# EAGLE library part CP2104 (library forkbomb19)
CP2104 - USB to UART Bridge VDD Output: 3.45V
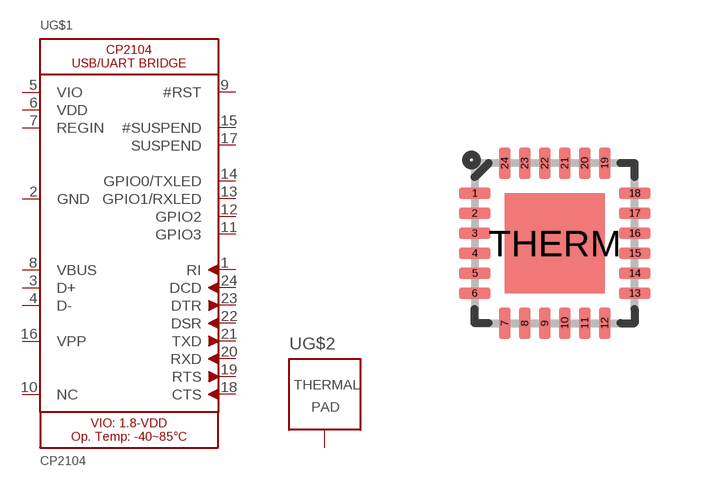
[diagram p2: symbol with the pads of QFN24_4MM_SMSC; footprint QFN24_4MM_SMSC]

Designator prefix U; gates G$1=CP2104 G$2=THERMAL-SLUG

## CP2104  [QFN24_4MM_SMSC]
1  G$1:RI  in
2  G$1:GND  pwr
3  G$1:D+
4  G$1:D-
5  G$1:VIO  pwr
6  G$1:VDD  pwr
7  G$1:REGIN  pwr
8  G$1:VBUS  pwr
9  G$1:#RST
10  G$1:NC  nc
11  G$1:GPIO3
12  G$1:GPIO2
13  G$1:GPIO1/RXLED
14  G$1:GPIO0/TXLED
15  G$1:#SUSPEND  out
16  G$1:VPP
17  G$1:SUSPEND  out
18  G$1:CTS  in
19  G$1:RTS  out
20  G$1:RXD  in
21  G$1:TXD  out
22  G$1:DSR  in
23  G$1:DTR  out
24  G$1:DCD  in
THERM  G$2:TP  pwr

## Footprint QFN24_4MM_SMSC (pad centres in mm)
smd 0.8 x 0.28: 1 -2,1.25; 2 -2,0.75; 3 -2,0.25; 4 -2,-0.25; 5 -2,-0.75; 6 -2,-1.25; 13 2,-1.25; 14 2,-0.75; 15 2,-0.25; 16 2,0.25; 17 2,0.75; 18 2,1.25
smd 0.28 x 0.8: 7 -1.25,-2; 8 -0.75,-2; 9 -0.25,-2; 10 0.25,-2; 11 0.75,-2; 12 1.25,-2; 19 1.25,2; 20 0.75,2; 21 0.25,2; 22 -0.25,2; 23 -0.75,2; 24 -1.25,2
smd 2.5 x 2.5: THERM 0,0